# Altium footprint library MICROCIRTUIT.PcbLib: 5 footprints
Each footprint in its own frame and in the unit in brackets; x right, y up, seen from the top. Pads: shape width x height; smd on the part's side, far side on the other; paste and mask are expansions set on the pad; w line width, h text height; cw(c..) or ccw(c..) is an arc to the next point about the centre after c.
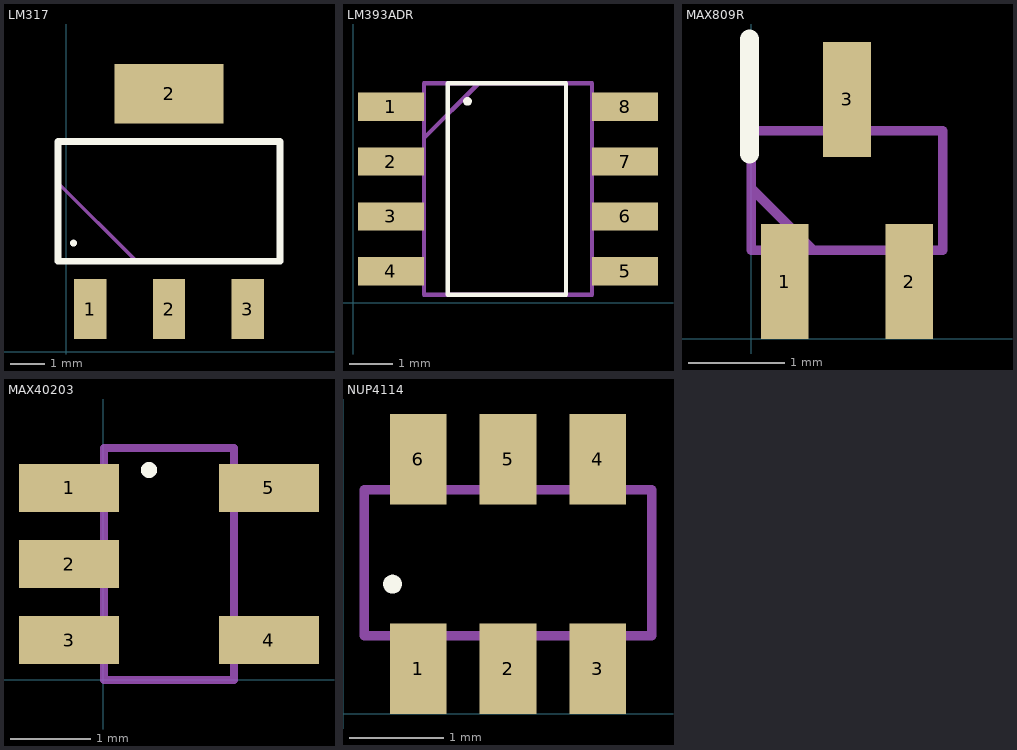
[diagram p0: the footprints below, top view; thin cyan lines are the x and y axes]

## LM317 [mm]
pads (4):
  rect 0.95x1.75 smd: 1(0.711,1.253) 2(3.011,1.253) 3(5.311,1.253)
  rect 3.2x1.75 smd: 2(3.011,7.553)
Top Overlay:
  lines w0.1: 0.217,3.133 ccw(c0.217,3.183) 0.217,3.233 ccw(c0.217,3.183) 0.217,3.133
  lines w0.2: -0.239,2.653 6.261,2.653 6.261,6.153 -0.239,6.153 -0.239,2.653
Mechanical 15:
  lines w0.1: -0.239,4.953 2.061,2.653 ; -0.239,2.653 6.261,2.653 6.261,6.153 -0.239,6.153 -0.239,2.653
3D body "LM317AEMP.stp": height 1.68, standoff 0, extent -0.239,0.903 6.261,7.903

## LM393ADR [mm]
pads (8):
  rect 1.528x0.65 smd: 1(0.877,4.536) 2(0.877,3.266) 3(0.877,1.996) 4(0.877,0.726) 5(6.299,0.726) 6(6.299,1.996) 7(6.299,3.266) 8(6.299,4.536)
Top Overlay:
  lines w0.1: 2.191,0.179 4.932,0.179 4.932,1.405 4.932,3.857 4.932,5.083 2.191,5.083 2.191,0.179 ; 2.599,4.663 ccw(c2.649,4.663) 2.699,4.663 ccw(c2.649,4.663) 2.599,4.663
Mechanical 15:
  lines w0.1: 1.64,3.813 2.91,5.083 ; 1.64,0.179 1.64,5.083 5.536,5.083 5.536,0.179 1.64,0.179
3D body "LM393ADR.stp": height 1.63, standoff 0, extent 0.613,0.18 6.636,5.082

## MAX809R [mm]
pads (3):
  rect 0.5x1.2 smd: 1(0.35,0.6) 2(1.65,0.6) 3(1,2.5)
Top Overlay:
  lines w0.2: -0.016,1.931 -0.016,3.131
Mechanical 15:
  lines w0.1: 0,1.575 0.65,0.925 ; 0,0.925 0,2.175 2,2.175 2,0.925 0,0.925
3D body "MAX809REXR+.stp": height 1.1, standoff 0, extent 0,0.45 2,2.55

## MAX40203 [mm]
pads (5):
  rect 1.25x0.6 smd: 1(-0.425,2.4) 2(-0.425,1.45) 3(-0.425,0.5) 4(2.075,0.5) 5(2.075,2.4)
Top Overlay:
  lines w0.1: 0.525,2.625 ccw(c0.575,2.625) 0.625,2.625 ccw(c0.575,2.625) 0.525,2.625
Mechanical 15:
  lines w0.1: 0.013,0 1.637,0 1.637,2.9 0.013,2.9 0.013,0
3D body "MAX40203AUK+T.stp": height 1.45, standoff 0, extent -0.575,0 2.225,2.9

## NUP4114 [mm]
pads (6):
  rect 0.6x0.96 smd: 1(0.8,0.477) 2(1.75,0.477) 3(2.7,0.477) 4(2.7,2.7) 5(1.75,2.7) 6(0.8,2.7)
Top Overlay:
  lines w0.1: 0.475,1.375 ccw(c0.525,1.375) 0.575,1.375 ccw(c0.525,1.375) 0.475,1.375
Top Courtyard:
  lines w0.1: 0.225,0.825 3.275,0.825 3.275,2.375 0.225,2.375 0.225,0.825
3D body "NUP4114HMR6T1G.stp": height 1.1, standoff 0, extent 0.25,0.225 3.25,2.975